# Altium schematic symbol library Connector.SchLib: 8 symbols
Pins are listed as number, name and electrical type; pins without a type are passive.

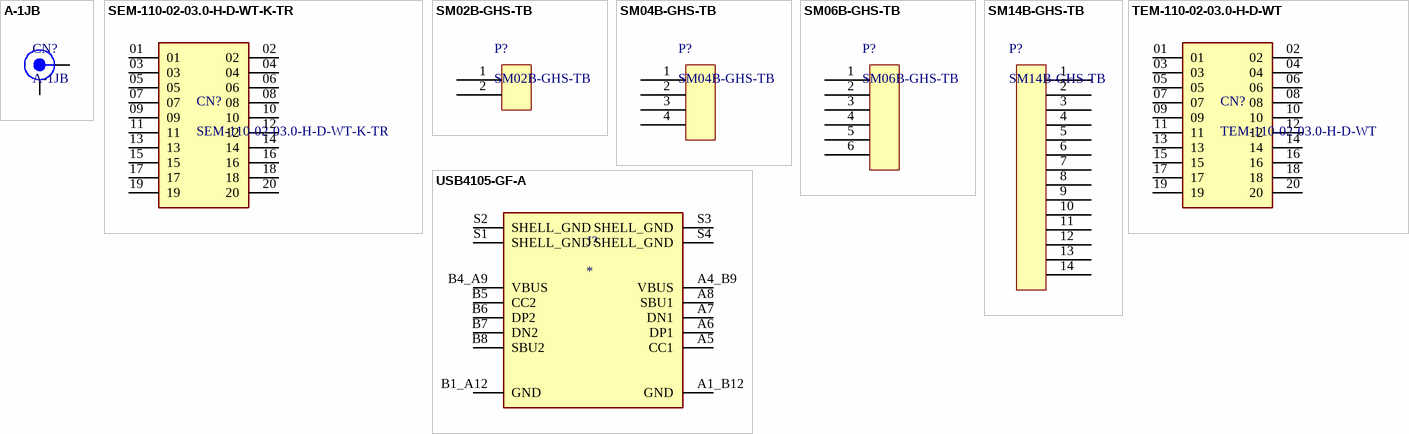
[diagram p0: symbols A-1JB to USB4105-GF-A]

## A-1JB
designator CN?
RF Connector; Value: A-1JB; Full Part Number: A-1JB
footprint A-1JB
pins: 1, 2

## SEM-110-02-03.0-H-D-WT-K-TR
designator CN?
Package: None; Price: None; Value: SEM-110-02-03.0-H-D-WT-K-TR; MP: SEM-110-02-03.0-H-D-WT-K-TR; Availability: Unavailable; Full Part Number: SEM-110-02-03.0-H-D-WT-K-TR
footprint SAMTEC_SEM-110-02-03.0-H-D-WT-K-TR
pins: 01, 02, 03, 04, 05, 06, 07, 08, 09, 10, 11, 12, 13, 14, 15, 16, 17, 18, 19, 20

## SM02B-GHS-TB
designator P?
Connector Header Surface Mount, Right Angle 2 position 0.049" (1.25mm); Manufacturer: JST Sales America Inc.; Full Part Number: SM02B-GHS-TB; Component Type: Header; Operating Temperature Range: -25°C ~ 85°C
footprint CONN_SM02B-GHS-TB_LF_SN
pins: 1, 2

## SM04B-GHS-TB
designator P?
Connector Header Surface Mount, Right Angle 4 position 0.049" (1.25mm); Manufacturer: JST Sales America Inc.; Full Part Number: SM04B-GHS-TB; Component Type: Header; Operating Temperature Range: -25°C ~ 85°C
footprint CONN_SM04B-GHS-TB_LF_SN (Footprint not found)
pins: 1, 2, 3, 4

## SM06B-GHS-TB
designator P?
Full Part Number: SM06B-GHS-TB
footprint FP-SM06B-GHS-TB_LF_SN-MFG
pins: 1, 2, 3, 4, 5, 6

## SM14B-GHS-TB
designator P?
Connector Header Surface Mount, Right Angle 14 position 0.049" (1.25mm); Manufacturer: JST Sales America Inc.; Full Part Number: SM14B-GHS-TB; Component Type: Header; Operating Temperature Range: -25°C ~ 85°C
footprint CONN_SM14B-GHS-TB_LF_SN
pins: 1, 2, 3, 4, 5, 6, 7, 8, 9, 10, 11, 12, 13, 14

## TEM-110-02-03.0-H-D-WT
designator CN?
MF: Samtec; Package: None; MP: TEM-110-02-03.0-H-D-WT; Price: None; Availability: Unavailable; Value: TEM-110-02-03.0-H-D-WT; Full Part Number: TEM-110-02-03.0-H-D-WT
footprint SAMTEC_TEM-110-02-03.0-H-D-WT
pins: 01, 02, 03, 04, 05, 06, 07, 08, 09, 10, 11, 12, 13, 14, 15, 16, 17, 18, 19, 20

## USB4105-GF-A
designator J?
USB-C (USB TYPE-C) USB 2.0 Receptacle Connector 24 (16+8 Dummy) Position Surface Mount, Right Angle; Through Hole; MP: USB4105-GF-A; Value: *; Availability: Unavailable; Price: None; Package: None
footprint GCT_USB4105-GF-A
pins: A1_B12 GND (power), A4_B9 VBUS (power), A5 CC1, A6 DP1, A7 DN1, A8 SBU1, B1_A12 GND (power), B4_A9 VBUS (power), B5 CC2, B6 DP2, B7 DN2, B8 SBU2, S1 SHELL_GND (power), S2 SHELL_GND (power), S3 SHELL_GND (power), S4 SHELL_GND (power)